# Altium schematic symbol library i2c_other_ics.SchLib: 6 symbols
Pins are listed as number, name and electrical type; pins without a type are passive.

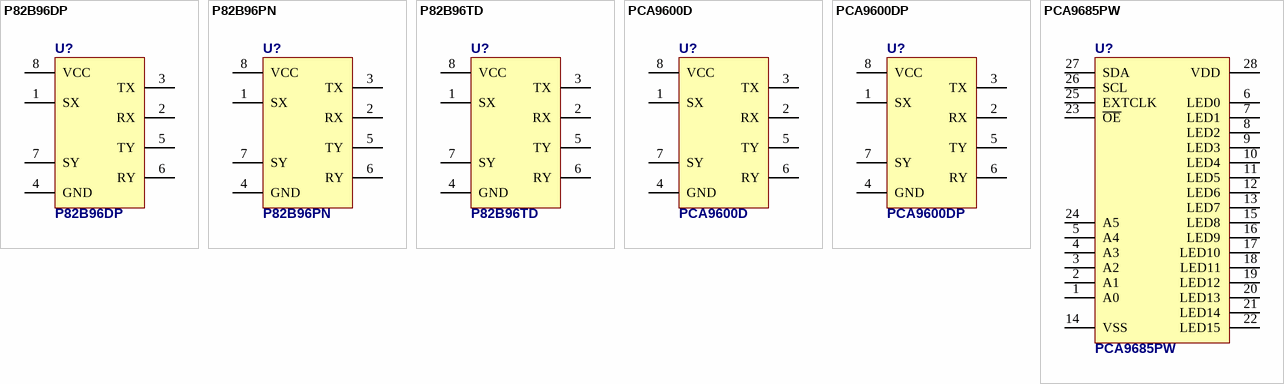
[diagram p0: symbols P82B96DP to PCA9685PW]

## P82B96DP
designator U?
Dual Bidirectional I2C Bus Buffer, TSSOP8 Package
footprint TSSOP8N
pins: 1 SX, 2 RX, 3 TX, 4 GND, 5 TY, 6 RY, 7 SY, 8 VCC

## P82B96PN
designator U?
Dual Bidirectional I2C Bus Buffer, DIP8 Package
footprint DIP8
pins: 1 SX, 2 RX, 3 TX, 4 GND, 5 TY, 6 RY, 7 SY, 8 VCC

## P82B96TD
designator U?
Dual Bidirectional I2C Bus Buffer, SO8 Package
footprint SO8 (Small Outline; 8 Leads; Body Width 3.7 mm; Pitch 1.27 mm)
pins: 1 SX, 2 RX, 3 TX, 4 GND, 5 TY, 6 RY, 7 SY, 8 VCC

## PCA9600D
designator U?
Dual Bidirectional I2C Bus Buffer, SO8 Package
footprint SO8 (Small Outline; 8 Leads; Body Width 3.7 mm; Pitch 1.27 mm)
pins: 1 SX, 2 RX, 3 TX, 4 GND, 5 TY, 6 RY, 7 SY, 8 VCC

## PCA9600DP
designator U?
Dual Bidirectional I2C Bus Buffer, TSSOP8 Package
footprint TSSOP8N
pins: 1 SX, 2 RX, 3 TX, 4 GND, 5 TY, 6 RY, 7 SY, 8 VCC

## PCA9685PW
designator U?
16-channel, 12-bit PWM Fm+ I2C-bus LED controller
footprint TSSOP28 (JEDEC MO-153 AE (TSSOP-28))
pins: 1 A0 (power), 2 A1 (power), 3 A2 (power), 4 A3 (power), 5 A4 (power), 6 LED0 (power), 7 LED1 (power), 8 LED2 (power), 9 LED3 (power), 10 LED4 (power), 11 LED5 (power), 12 LED6 (power), 13 LED7 (power), 14 VSS (power), 15 LED8 (power), 16 LED9 (power), 17 LED10 (power), 18 LED11 (power), 19 LED12 (power), 20 LED13 (power), 21 LED14 (power), 22 LED15 (power), 23 ~{OE} (power), 24 A5 (power), 25 EXTCLK (power), 26 SCL (power), 27 SDA (power), 28 VDD (power)